# Altium footprint library SOP_635P_M.PcbLib: 17 footprints (part 2 of 2)
Each footprint in its own frame and in the unit in brackets; x right, y up, seen from the top. Pads: shape width x height; smd on the part's side, far side on the other; paste and mask are expansions set on the pad; w line width, h text height; cw(c..) or ccw(c..) is an arc to the next point about the centre after c.
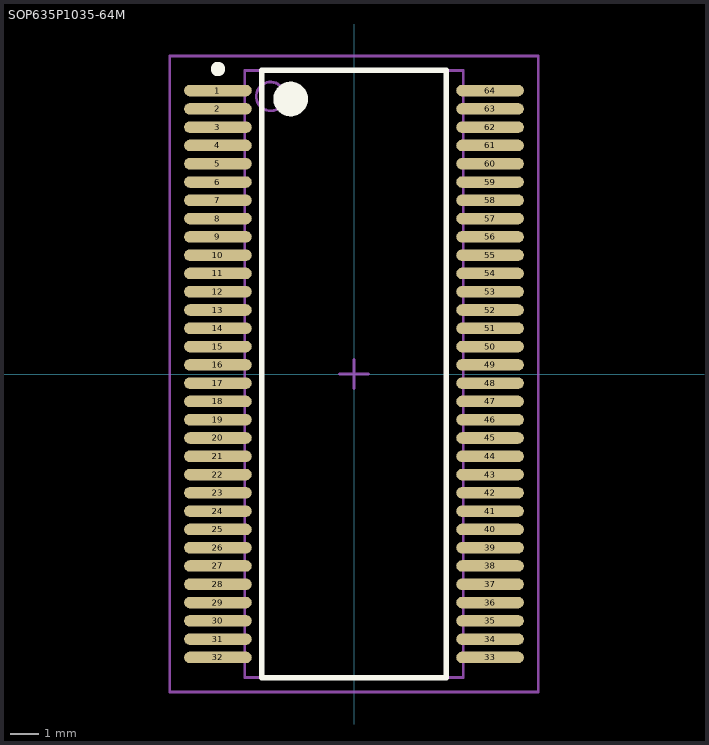
[diagram p1: the footprint, top view; thin cyan lines are the x and y axes]

## SOP635P1035-64M [mm] "SOP, 64-Leads, Body 21x7.5mm, Pitch 0.635mm, IPC Low Density"
height 2.8
pads (64):
  oval 2.35x0.4 smd: 1(-4.725,9.842) 2(-4.725,9.207) 3(-4.725,8.572) 4(-4.725,7.938) 5(-4.725,7.302) 6(-4.725,6.667) 7(-4.725,6.032) 8(-4.725,5.397) 9(-4.725,4.763) 10(-4.725,4.127) 11(-4.725,3.492) 12(-4.725,2.857) 13(-4.725,2.222) 14(-4.725,1.587) 15(-4.725,0.953) 16(-4.725,0.318) 17(-4.725,-0.318) 18(-4.725,-0.953) 19(-4.725,-1.587) 20(-4.725,-2.222) 21(-4.725,-2.857) 22(-4.725,-3.492) 23(-4.725,-4.127) 24(-4.725,-4.763) 25(-4.725,-5.397) 26(-4.725,-6.032) 27(-4.725,-6.667) 28(-4.725,-7.302) 29(-4.725,-7.938) 30(-4.725,-8.572) 31(-4.725,-9.207) 32(-4.725,-9.842) 33(4.725,-9.842) 34(4.725,-9.207) 35(4.725,-8.572) 36(4.725,-7.938) 37(4.725,-7.302) 38(4.725,-6.667) 39(4.725,-6.032) 40(4.725,-5.397) 41(4.725,-4.763) 42(4.725,-4.127) 43(4.725,-3.492) 44(4.725,-2.857) 45(4.725,-2.222) 46(4.725,-1.587) 47(4.725,-0.953) 48(4.725,-0.318) 49(4.725,0.318) 50(4.725,0.953) 51(4.725,1.587) 52(4.725,2.222) 53(4.725,2.857) 54(4.725,3.492) 55(4.725,4.127) 56(4.725,4.763) 57(4.725,5.397) 58(4.725,6.032) 59(4.725,6.667) 60(4.725,7.302) 61(4.725,7.938) 62(4.725,8.572) 63(4.725,9.207) 64(4.725,9.842)
Top Overlay:
  circle w0.25: c-4.725,10.593 r0.125
  circle w0.6: c-2.2,9.55 r0.3
  lines w0.2: -3.2,-10.55 -3.2,10.55 3.2,10.55 3.2,-10.55 -3.2,-10.55
Mechanical 13:
  circle w0.1: c-2.895,9.64 r0.5
  lines w0.1: -3.795,-10.54 -3.795,10.54 3.795,10.54 3.795,-10.54 -3.795,-10.54
Mechanical 15:
  lines w0.1: -0.5,0 0.5,0 ; 0,-0.5 0,0.5 ; -6.4,-11.05 -6.4,11.05 6.4,11.05 6.4,-11.05 -6.4,-11.05
3D body: height 2.8, standoff 0, extent -3.795,-10.54 3.795,10.54